# EAGLE library part IC_DIL14 (library dp_devices)
Universal 14pins IC
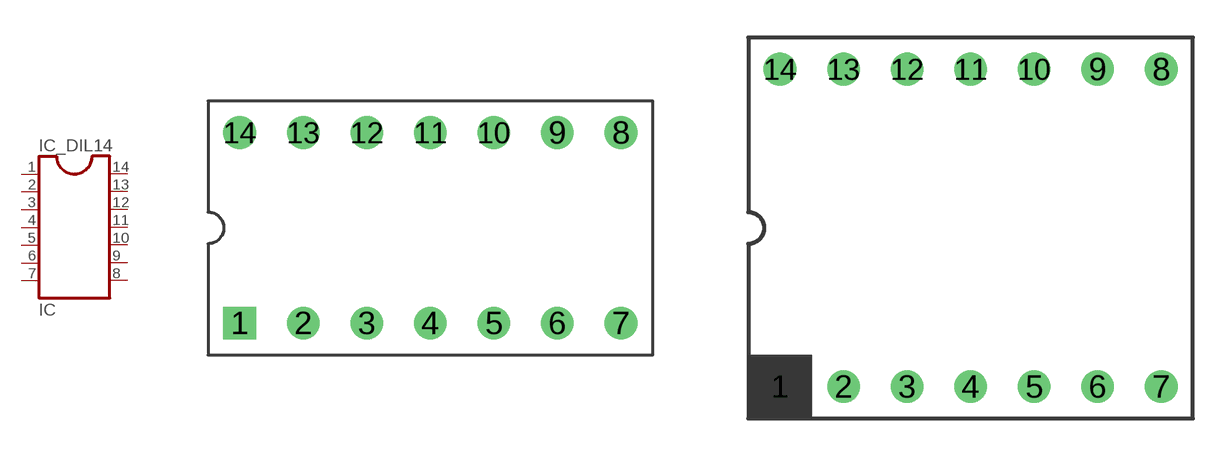
[diagram p34: symbol with the pads of DIP14; footprints DIP14, DIP14W]

Designator prefix IC

## IC_DIL14-PTH  [DIP14]
1  1
2  2
3  3
4  4
5  5
6  6
7  7
8  8
9  9
10  10
11  11
12  12
13  13
14  14

## IC_DIL14-PTHW  [DIP14W]
Pads as for DIP14

## IC_DIL14-SOIC-14  [SOIC-14]
Pads as for DIP14

## IC_DIL14-SOIC-14W  [SOIC-14W]
P1  1
P2  2
P3  3
P4  4
P5  5
P6  6
P7  7
P8  8
P9  9
P10  10
P11  11
P12  12
P13  13
P14  14

## IC_DIL14-SOIC-14NW  [SOIC-14NW]
Pads as for SOIC-14W

## Footprint DIP14 (pad centres in mm)
drill 0.8 square: 1 -7.62,-3.81
drill 0.8 round: 2 -5.08,-3.81; 3 -2.54,-3.81; 4 0,-3.81; 5 2.54,-3.81; 6 5.08,-3.81; 7 7.62,-3.81; 8 7.62,3.81; 9 5.08,3.81; 10 2.54,3.81; 11 0,3.81; 12 -2.54,3.81; 13 -5.08,3.81; 14 -7.62,3.81

## Footprint DIP14W (pad centres in mm)
drill 0.8 square: 1 -7.62,-6.35
drill 0.8 round: 2 -5.08,-6.35; 3 -2.54,-6.35; 4 0,-6.35; 5 2.54,-6.35; 6 5.08,-6.35; 7 7.62,-6.35; 8 7.62,6.35; 9 5.08,6.35; 10 2.54,6.35; 11 0,6.35; 12 -2.54,6.35; 13 -5.08,6.35; 14 -7.62,6.35

## Footprint SOIC-14 (pad centres in mm)
SSOP-14, 0.6 x 1.5 mm pad, 1.27mm pad pitch
smd 0.6 x 1.5: 1 -3.81,-2.7; 2 -2.54,-2.7; 3 -1.27,-2.7; 4 0,-2.7; 5 1.27,-2.7; 6 2.54,-2.7; 7 3.81,-2.7; 8 3.81,2.7; 9 2.54,2.7; 10 1.27,2.7; 11 0,2.7; 12 -1.27,2.7; 13 -2.54,2.7; 14 -3.81,2.7

## Footprint SOIC-14W (pad centres in mm)
SSOP-14 Wide Pad size: 0.6 x 1.5 mm Pad pitch: 1.27mm Pad pitch lateral: 9.62mm
smd 0.6 x 1.5: P1 -3.81,-4.81; P2 -2.54,-4.81; P3 -1.27,-4.81; P4 0,-4.81; P5 1.27,-4.81; P6 2.54,-4.81; P7 3.81,-4.81; P8 3.81,4.81; P9 2.54,4.81; P10 1.27,4.81; P11 0,4.81; P12 -1.27,4.81; P13 -2.54,4.81; P14 -3.81,4.81

## Footprint SOIC-14NW (pad centres in mm)
SSOP-14 Narrow - Wide Pad size: 0.6 x 3.56 mm Pad pitch: 1.27mm Pad pitch lateral: 7.56mm
smd 0.6 x 3.56: P1 -3.81,-3.78; P2 -2.54,-3.78; P3 -1.27,-3.78; P4 0,-3.78; P5 1.27,-3.78; P6 2.54,-3.78; P7 3.81,-3.78; P8 3.81,3.78; P9 2.54,3.78; P10 1.27,3.78; P11 0,3.78; P12 -1.27,3.78; P13 -2.54,3.78; P14 -3.81,3.78